# EAGLE library part ID-12 (library karlnet-parts)
ID-12 125khz RFID reader, builtin antenna ID Innovations part, available from sparkfun: https://www.sparkfun.com/products/8419
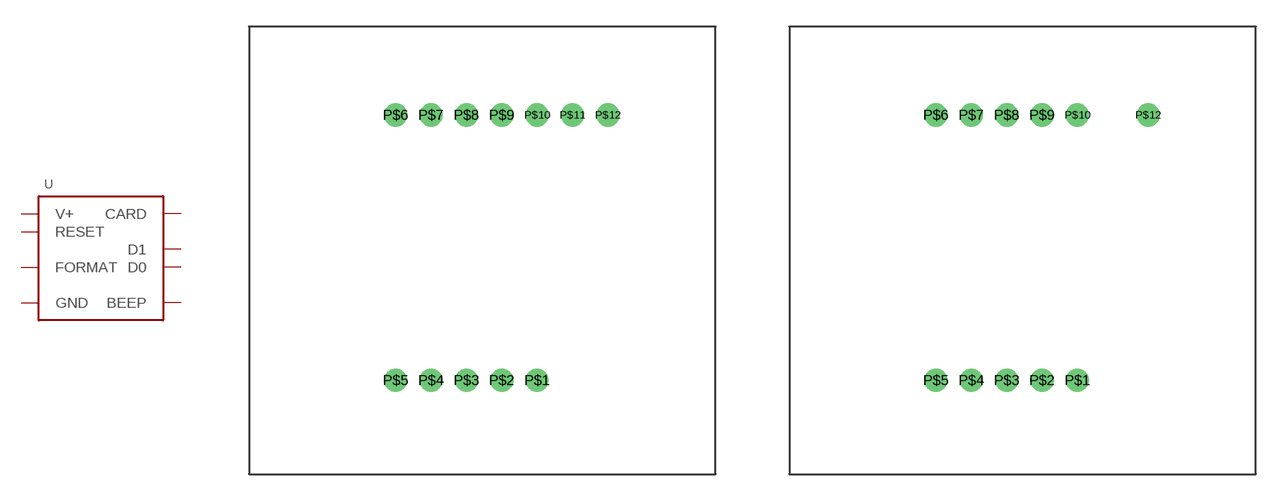
[diagram p7: symbol with the pads of ID-12-SOCKET; footprints ID-12-SOCKET, ID-12-NATIVE]

Designator prefix -

## ID-12SOCKET  [ID-12-SOCKET]
P$1  GND  pwr
P$2  RESET
P$5  CARD  out
P$7  FORMAT  in
P$8  D1  out
P$9  D0  out
P$10  BEEP  out
P$12  V+  pwr

## ID-12NATIVE  [ID-12-NATIVE]
Pads as for ID-12-SOCKET

## Footprint ID-12-SOCKET (pad centres in mm)
Designed to be used with 2mm socket headers, so includes an extra pin that is not connected
drill 0.8 round: P$1 16.3,5.3; P$2 14.3,5.3; P$3 12.3,5.3; P$4 10.3,5.3; P$5 8.3,5.3; P$6 8.3,20.3; P$7 10.3,20.3; P$8 12.3,20.3; P$9 14.3,20.3; P$10 16.3,20.3; P$11 18.3,20.3; P$12 20.3,20.3

## Footprint ID-12-NATIVE (pad centres in mm)
Designed for native board mount, no extra holes to help with sockets
drill 0.8 round: P$1 16.3,5.3; P$2 14.3,5.3; P$3 12.3,5.3; P$4 10.3,5.3; P$5 8.3,5.3; P$6 8.3,20.3; P$7 10.3,20.3; P$8 12.3,20.3; P$9 14.3,20.3; P$10 16.3,20.3; P$12 20.3,20.3